# Altium schematic symbol library UM DC-DC.Schlib: 1 symbol
Pins are listed as number, name and electrical type; pins without a type are passive.

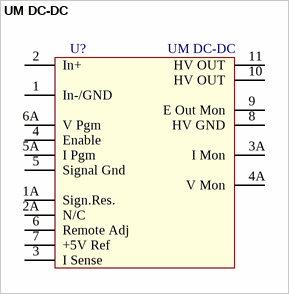
[diagram p0: symbol UM DC-DC]

## UM DC-DC
designator U?
Назначение: Управляемый неизолированный ВИП; Наименование: UM0.062P4
footprint UM DC-DC
pins: 1 In-/GND (oc), 1A Sign.Res. (oc), 2 In+ (oc), 2A N/C (oc), 3 I Sense (oc), 3A I Mon (oc), 4 Enable (oc), 4A V Mon (oc), 5 Signal Gnd (oc), 5A I Pgm (oc), 6 Remote Adj (oc), 6A V Pgm (oc), 7 +5V Ref (oc), 8 HV GND (oc), 9 E Out Mon (oc), 10 HV OUT (oc), 11 HV OUT (oc)